# EAGLE library part ADT7420 (library FaBo-Sensor)
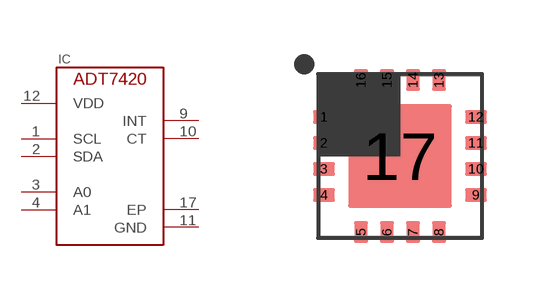
[diagram p19: symbol with the pads of ADT7420; footprint ADT7420]

Designator prefix IC

## ADT7420  [ADT7420]
1  SCL
2  SDA
3  A0
4  A1
9  INT
10  CT
11  GND
12  VDD
17  EP

## Footprint ADT7420 (pad centres in mm)
smd 0.55 x 0.35: 1 -1.9,0.975; 2 -1.9,0.325; 3 -1.9,-0.325; 4 -1.9,-0.975; 9 1.9,-0.975; 10 1.9,-0.325; 11 1.9,0.325; 12 1.9,0.975
smd 0.35 x 0.55: 5 -0.975,-1.9; 6 -0.325,-1.9; 7 0.325,-1.9; 8 0.975,-1.9; 13 0.975,1.9; 14 0.325,1.9; 15 -0.325,1.9; 16 -0.975,1.9
smd 2.6 x 2.6: 17 0,0